# EAGLE library part 74HC4060N (library NXP_By_element14_Batch_1)
14-stage binary ripple counter with oscillator
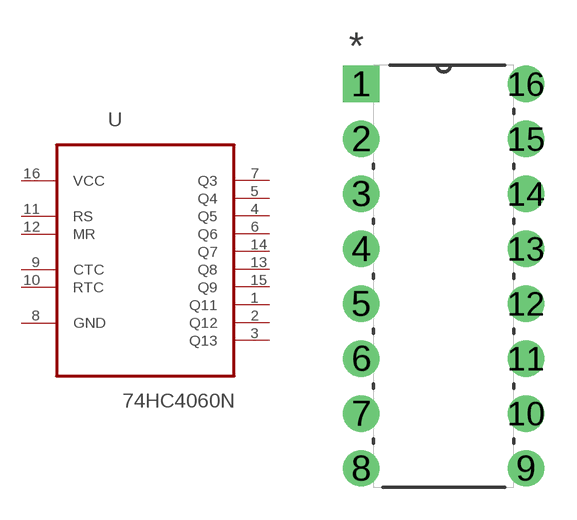
[diagram p119: symbol with the pads of DIP254P762X420-16; footprint DIP254P762X420-16]

Designator prefix U

## 74HC4060N (MPN: 74HC4060N; OC_FARNELL: 380945; OC_NEWARK: 07WX3743; PACKAGE: DIP-16; SUPPLIER: NXP)  [DIP254P762X420-16]
1  Q11  out
2  Q12  out
3  Q13  out
4  Q5  out
5  Q4  out
6  Q6  out
7  Q3  out
8  GND  pas
9  CTC  pas
10  RTC  pas
11  RS  in
12  MR  in
13  Q8  out
14  Q7  out
15  Q9  out
16  VCC  pwr

## Footprint DIP254P762X420-16 (pad centres in mm)
drill 1.118 square: 1 -7.62,17.78
drill 1.118: 2 -7.62,15.24; 3 -7.62,12.7; 4 -7.62,10.16; 5 -7.62,7.62; 6 -7.62,5.08; 7 -7.62,2.54; 8 -7.62,0; 9 0,0; 10 0,2.54; 11 0,5.08; 12 0,7.62; 13 0,10.16; 14 0,12.7; 15 0,15.24; 16 0,17.78